# Altium schematic symbol library KF65-3P.SchLib: 1 symbol
Pins are listed as number, name and electrical type; pins without a type are passive.

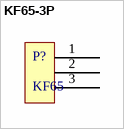
[diagram p0: symbol KF65-3P]

## KF65-3P
designator P?, comment KF65
pins: 1, 2, 3